# Altium footprint library SOIC.PcbLib: 7 footprints
Each footprint in its own frame and in the unit in brackets; x right, y up, seen from the top. Pads: shape width x height; smd on the part's side, far side on the other; paste and mask are expansions set on the pad; w line width, h text height; cw(c..) or ccw(c..) is an arc to the next point about the centre after c.
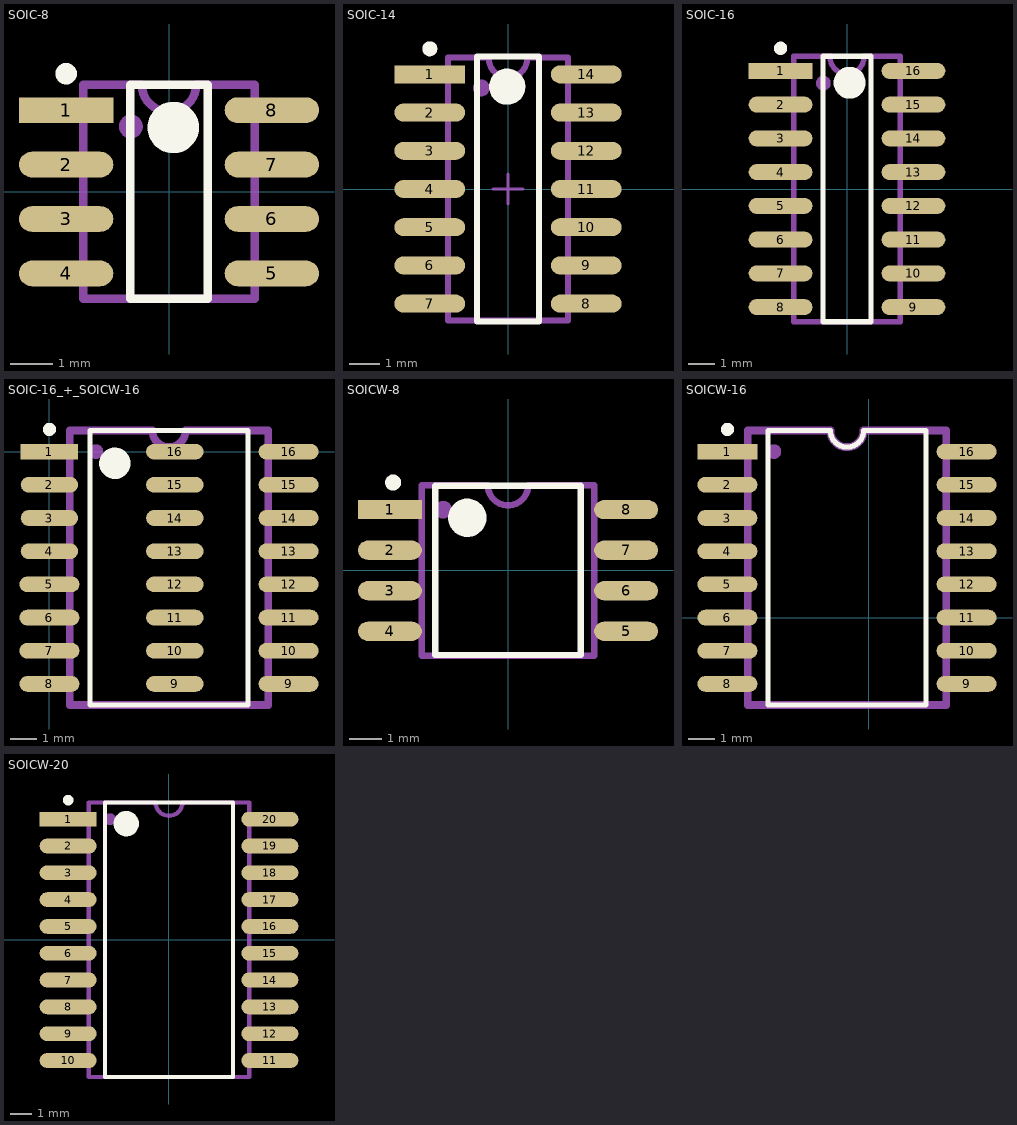
[diagram p0: the footprints below, top view; thin cyan lines are the x and y axes]

## SOIC-8 [mm] "SOIC, 8-Leads, Body 5,0x4,0mm (max), Pitch 1,27mm, IPC Medium Density"
height 1.75
pads (8):
  rect 2.2x0.6 smd: 1(-2.4,1.905)
  oval 2.2x0.6 smd: 2(-2.4,0.635) 3(-2.4,-0.635) 4(-2.4,-1.905) 5(2.4,-1.905) 6(2.4,-0.635) 7(2.4,0.635) 8(2.4,1.905)
Top Overlay:
  circle w0.6: c0.1,1.5 r0.3
  circle w0.25: c-2.4,2.755 r0.125
  lines w0.2: -0.9,-2.5 0.9,-2.5 0.9,2.5 -0.9,2.5 -0.9,-2.5
Mechanical 13:
  circle w0.3: c-0.889,1.524 r0.127
  lines w0.2: -2,-2.5 2,-2.5 2,2.5 0.635,2.5 cw(c0,2.5) -0.635,2.5 -2,2.5 -2,-2.5
  text ".Designator" at -0.889,0.762 h2.5
3D body: height 1.68, standoff -0.07, extent -3.048,-2.5 3.152,2.5

## SOIC-14 [mm] "SOIC, 14-Leads, Body 8,8x4,0mm (max), Pitch 1,27mm, IPC Medium Density"
height 2.65
pads (14):
  rect 2.35x0.6 smd: 1(-2.6,3.81)
  oval 2.35x0.6 smd: 2(-2.6,2.54) 3(-2.6,1.27) 4(-2.6,0) 5(-2.6,-1.27) 6(-2.6,-2.54) 7(-2.6,-3.81) 8(2.6,-3.81) 9(2.6,-2.54) 10(2.6,-1.27) 11(2.6,0) 12(2.6,1.27) 13(2.6,2.54) 14(2.6,3.81)
Top Overlay:
  circle w0.25: c-2.6,4.66 r0.125
  circle w0.6: c-0.025,3.4 r0.3
  lines w0.2: -1.025,-4.4 -1.025,4.4 1.025,4.4 1.025,-4.4 -1.025,-4.4
Mechanical 1:
  text ".Designator" at -0.381,2.159 h1.5
Mechanical 13:
  circle w0.3: c-0.889,3.359 r0.127
  lines w0.2: -0.635,4.335 ccw(c0,4.335) 0.635,4.335 ; -0.635,4.375 -2,4.375 -2,-4.375 2,-4.375 2,4.375 0.635,4.375
Mechanical 15:
  lines w0.1: -0.5,0 0.5,0 ; 0,-0.5 0,0.5
3D body: height 1.55, standoff 0, extent -3,-4.318 3,4.332

## SOIC-16 [mm] "SOIC, 16-Leads, Body 10,0x4,0mm (max), Pitch 1,27mm, IPC Medium Density"
height 2.65
pads (16):
  rect 2.4x0.6 smd: 1(-2.5,4.445)
  oval 2.4x0.6 smd: 2(-2.5,3.175) 3(-2.5,1.905) 4(-2.5,0.635) 5(-2.5,-0.635) 6(-2.5,-1.905) 7(-2.5,-3.175) 8(-2.5,-4.445) 9(2.5,-4.445) 10(2.5,-3.175) 11(2.5,-1.905) 12(2.5,-0.635) 13(2.5,0.635) 14(2.5,1.905) 15(2.5,3.175) 16(2.5,4.445)
Top Overlay:
  circle w0.25: c-2.5,5.295 r0.125
  circle w0.6: c0.1,4 r0.3
  lines w0.2: -0.9,-5 -0.9,5 0.9,5 0.9,-5 -0.9,-5
Mechanical 13:
  circle w0.3: c-0.889,3.984 r0.127
  lines w0.2: -0.635,4.96 ccw(c0,4.96) 0.635,4.96 ; -0.635,5 -2,5 -2,-5 2,-5 2,5 0.635,5
  text ".Designator" at -0.381,2.413 h1.52
3D body: height 1.75, standoff 0, extent -2.879,-4.9 2.921,4.9

## SOIC-16_+_SOICW-16 [mm]
pads (24):
  rect 2.2x0.6 smd: 1(0,0)
  oval 2.2x0.6 smd: 2(0,-1.27) 3(0,-2.54) 4(0,-3.81) 9(4.8,-8.89) 10(4.8,-7.62) 11(4.8,-6.35) 12(4.8,-5.08) 13(4.8,-3.81) 14(4.8,-2.54) 15(4.8,-1.27) 16(4.8,0)
  oval 2.3x0.6 smd: 5(0,-5.08) 6(0,-6.35) 7(0,-7.62) 8(0,-8.89) 9(9.15,-8.89) 10(9.15,-7.62) 11(9.15,-6.35) 12(9.15,-5.08) 13(9.15,-3.81) 14(9.15,-2.54) 15(9.15,-1.27) 16(9.15,0)
Top Overlay:
  circle w0.25: c0,0.85 r0.125
  circle w0.6: c2.5,-0.445 r0.3
  circle w0.25: c0,0.85 r0.125
  lines w0.2: 1.55,-9.695 7.6,-9.695 7.6,0.805 1.55,0.805 1.55,-9.695
Mechanical 13:
  circle w0.3: c1.781,0 r0.127
  lines w0.3: 0.775,-9.695 8.375,-9.695 8.375,0.805 5.21,0.805 cw(c4.575,0.805) 3.94,0.805 0.775,0.805 0.775,-9.695
  text ".Designator" at 1.778,-0.762 h2.5
3D body: height 2.65, standoff 0, extent -0.632,-9.595 9.668,0.705

## SOICW-8 [mm] "SOIC, 8-Leads, Body 5,3x5,4mm (max), Pitch 1,27mm, IPC Medium Density"
height 1.75
pads (8):
  rect 2x0.6 smd: 1(-3.7,1.905)
  oval 2x0.6 smd: 2(-3.7,0.635) 3(-3.7,-0.635) 4(-3.7,-1.905) 5(3.7,-1.905) 6(3.7,-0.635) 7(3.7,0.635) 8(3.7,1.905)
Top Overlay:
  circle w0.25: c-3.6,2.755 r0.125
  circle w0.6: c-1.275,1.65 r0.3
  lines w0.2: -2.275,-2.65 -2.275,2.65 2.275,2.65 2.275,-2.65 -2.275,-2.65
Mechanical 13:
  circle w0.3: c-2.032,1.905 r0.127
  lines w0.2: -2.7,-2.675 -2.7,2.675 -0.635,2.675 ccw(c0,2.675) 0.635,2.675 2.7,2.675 2.7,-2.675 -2.7,-2.675
  text ".Designator" at -0.127,1.651 h2.5
3D body: height 1.83, standoff -0.03, extent -3.95,-2.667 3.95,2.633

## SOICW-16 [mm]
pads (16):
  rect 2.3x0.6 smd: 1(-5.4,6.35)
  oval 2.3x0.6 smd: 2(-5.4,5.08) 3(-5.4,3.81) 4(-5.4,2.54) 5(-5.4,1.27) 6(-5.4,0) 7(-5.4,-1.27) 8(-5.4,-2.54) 9(3.749,-2.54) 10(3.749,-1.27) 11(3.749,0) 12(3.749,1.27) 13(3.749,2.54) 14(3.749,3.81) 15(3.749,5.08) 16(3.749,6.35)
Top Overlay:
  circle w0.25: c-5.4,7.2 r0.125
  lines w0.2: -3.851,-3.345 -3.851,7.155 -1.46,7.155 ccw(c-0.826,7.155) -0.191,7.155 2.2,7.155 2.2,-3.345 -3.851,-3.345
Mechanical 13:
  circle w0.3: c-3.619,6.35 r0.127
  lines w0.3: -4.626,-3.345 -4.626,7.155 -1.46,7.155 ccw(c-0.826,7.155) -0.191,7.155 2.975,7.155 2.975,-3.345 -4.626,-3.345
  text ".Designator" at -1.46,4.699 h2.5
3D body: height 2.65, standoff 0, extent -6.032,-3.245 4.267,7.055

## SOICW-20 [mm] "SOIC, 20-Leads, Body 13,0x7,6mm (max), Pitch 1,27mm, IPC Low Density"
height 2.65
pads (20):
  rect 2.7x0.7 smd: 1(-4.775,5.715)
  oval 2.7x0.7 smd: 2(-4.775,4.445) 3(-4.775,3.175) 4(-4.775,1.905) 5(-4.775,0.635) 6(-4.775,-0.635) 7(-4.775,-1.905) 8(-4.775,-3.175) 9(-4.775,-4.445) 10(-4.775,-5.715) 11(4.775,-5.715) 12(4.775,-4.445) 13(4.775,-3.175) 14(4.775,-1.905) 15(4.775,-0.635) 16(4.775,0.635) 17(4.775,1.905) 18(4.775,3.175) 19(4.775,4.445) 20(4.775,5.715)
Top Overlay:
  circle w0.6: c-2.025,5.5 r0.3
  circle w0.25: c-4.775,6.615 r0.125
  lines w0.2: -3.025,-6.5 3.025,-6.5 3.025,6.5 -3.025,6.5 -3.025,-6.5
Mechanical 13:
  circle w0.3: c-2.794,5.715 r0.127
  lines w0.2: -3.8,-6.5 3.8,-6.5 3.8,6.5 0.635,6.5 cw(c0,6.508) -0.635,6.5 -3.8,6.5 -3.8,-6.5
  text ".Designator" at -0.508,4.953 h2.5
3D body: height 2.45, standoff -0.1, extent -5.15,-6.35 5.15,6.45